# Altium schematic symbol library sa868-sym.SchLib: 1 symbol
Pins are listed as number, name and electrical type; pins without a type are passive.

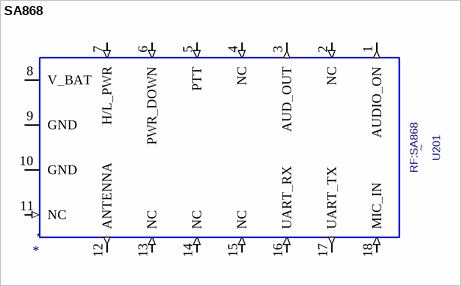
[diagram p0: symbol SA868]

## SA868
designator *  value ~  Footprint: RF:SA868  Reference: U201
ki_keywords: SA868 is a cost-effective integrated professional walkie-talkie module, built-inhigh-speedmicrocontroller, high-performance RF transceiver chip and RF power amplifier, and provides astandardserial port to communicate with the module
footprint SA868
pins: 1 AUDIO_ON (out), 2 NC (in), 3 AUD_OUT (out), 4 NC (in), 5 PTT (in), 6 PWR_DOWN (in), 7 H/L_PWR (in), 8 V_BAT (power), 9 GND (power), 10 GND (power), 11 NC (in), 12 ANTENNA (out), 13 NC (in), 14 NC (in), 15 NC (in), 16 UART_RX (in), 17 UART_TX (out), 18 MIC_IN (in)